# Altium schematic symbol library KST_ETD49.SchLib: 1 symbol
Pins are listed as number, name and electrical type; pins without a type are passive.

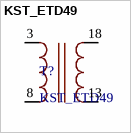
[diagram p0: symbol KST_ETD49]

## KST_ETD49
designator T?
Tr-tor 310 to 4K. ETD49
footprint KST_ETD49
pins: 3, 8, 13, 18